# Altium schematic symbol library Sirius.SchLib: 69 symbols (part 2 of 2)
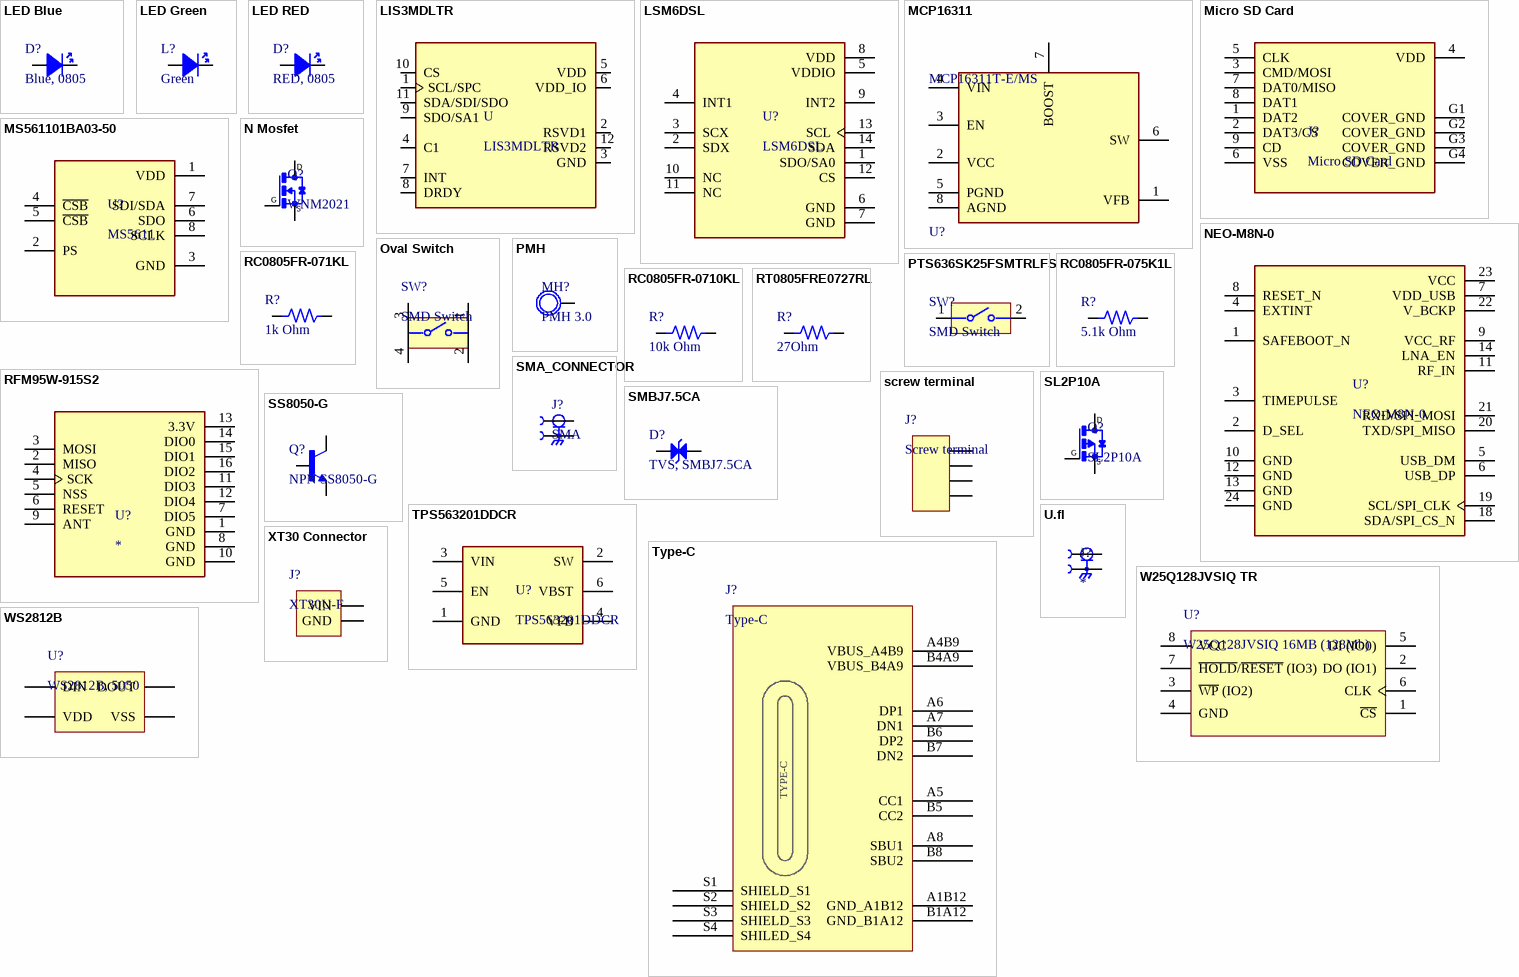
[diagram p2: symbols LED Blue to XT30 Connector]

## WS2812B
designator U?, comment WS2812B, 5050
Intelligent Control LED Integrated Light Source, 3.5 to 5.3 V, -25 to 80 degC, 4-Pin SMD, RoHS, Tape and Reel; Manufacturer: Adafruit-Industries-LLC; Number of LEDs: 10; Configuration: Discrete; Utilized LED: WS2812(5050); Datasheet URL: http://datasheet.octopart.com/ADA1655-Adafruit-Industries-datasheet-32028139.pdf; Series: Neopixel; Interface: -; Package Description: 4-Pin Surface Mount Device, Body 5 x 5 mm; Color: Red,Green,Blue(RGB); Category: Optoelectronics; Controller Type: -; Package Reference: 1655; Manufacturer URL: https://www.adafruit.com/; Mounting Type: SurfaceMount; Datasheet Version: May-13; Size / Dimension: 5.00mmLx5.00mmW; Family: Addressable,Specialty
footprint WS2812B (5050 SMD, 4-Leads, Body 5x5mm)
pins: DIN, DOUT, VDD, VSS

## XT30 Connector
designator J?, comment XT30U-F
footprint XT30UPB-F
pins: GND, VIN